# Altium schematic symbol library DA14531MOD-00F01002.SchLib: 1 symbol
Pins are listed as number, name and electrical type; pins without a type are passive.

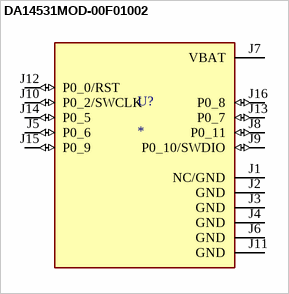
[diagram p0: symbol DA14531MOD-00F01002]

## DA14531MOD-00F01002
designator U?
Dialog Bluetooth Low Energy module; MP: DA14531MOD-00F01002; Package: None; Availability: Unavailable; Value: *; Price: None
footprint DA14531MOD-00F01002
pins: J1 NC/GND, J2 GND (power), J3 GND (power), J4 GND (power), J5 P0_6 (io), J6 GND (power), J7 VBAT (power), J8 P0_11 (io), J9 P0_10/SWDIO (io), J10 P0_2/SWCLK (io), J11 GND (power), J12 P0_0/RST (io), J13 P0_7 (io), J14 P0_5 (io), J15 P0_9 (io), J16 P0_8 (io)